# EAGLE library part U-BLOX_SARA-N2 (library UBLOX_SARA-N2)
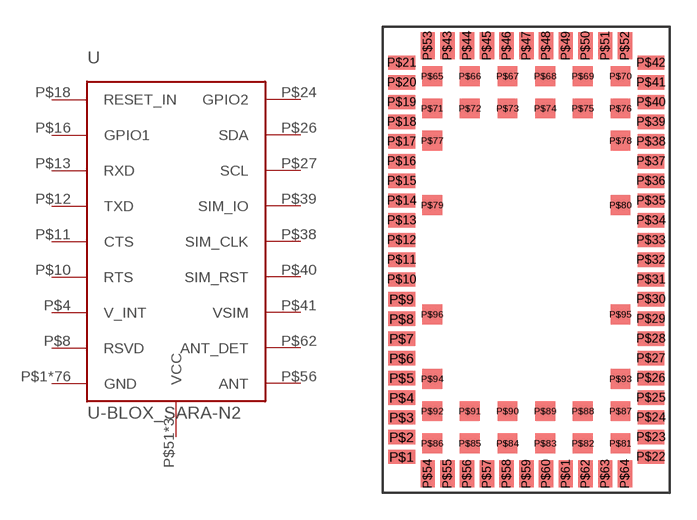
[diagram p0: symbol with the pads of SARA-N2; footprint SARA-N2]

Designator prefix -

## U-BLOX_SARA-N2  [SARA-N2]
P$1  GND  pwr
P$2  GND  pwr
P$3  GND  pwr
P$4  V_INT
P$5  GND  pwr
P$6  GND  pwr
P$7  GND  pwr
P$8  RSVD  nc
P$9  GND  pwr
P$10  RTS  in
P$11  CTS  out
P$12  TXD  in
P$13  RXD  out
P$14  GND  pwr
P$15  GND  pwr
P$16  GPIO1
P$17  GND  pwr
P$18  RESET_IN  in
P$19  GND  pwr
P$20  GND  pwr
P$21  GND  pwr
P$22  GND  pwr
P$23  GND  pwr
P$24  GPIO2
P$25  GND  pwr
P$26  SDA
P$27  SCL  out
P$28  GND  pwr
P$29  GND  pwr
P$30  GND  pwr
P$31  GND  pwr
P$32  GND  pwr
P$33  GND  pwr
P$34  GND  pwr
P$35  GND  pwr
P$36  GND  pwr
P$37  GND  pwr
P$38  SIM_CLK  out
P$39  SIM_IO
P$40  SIM_RST  out
P$41  VSIM  out
P$42  GND  pwr
P$43  GND  pwr
P$44  GND  pwr
P$45  GND  pwr
P$46  GND  pwr
P$47  GND  pwr
P$48  GND  pwr
P$49  GND  pwr
P$50  GND  pwr
P$51  VCC  pwr
P$52  VCC  pwr
P$53  VCC  pwr
P$54  GND  pwr
P$55  GND  pwr
P$56  ANT
P$57  GND  pwr
P$58  GND  pwr
P$59  GND  pwr
P$60  GND  pwr
P$61  GND  pwr
P$62  ANT_DET  in
P$63  GND  pwr
P$64  GND  pwr
P$65  GND  pwr
P$66  GND  pwr
P$67  GND  pwr
P$68  GND  pwr
P$69  GND  pwr
P$70  GND  pwr
P$71  GND  pwr
P$72  GND  pwr
P$73  GND  pwr
P$74  GND  pwr
P$75  GND  pwr
P$76  GND  pwr
P$77  GND  pwr
P$78  GND  pwr
P$79  GND  pwr
P$80  GND  pwr
P$81  GND  pwr
P$82  GND  pwr
P$83  GND  pwr
P$84  GND  pwr
P$85  GND  pwr
P$86  GND  pwr
P$87  GND  pwr
P$88  GND  pwr
P$89  GND  pwr
P$90  GND  pwr
P$91  GND  pwr
P$92  GND  pwr
P$93  GND  pwr
P$94  GND  pwr
P$95  GND  pwr
P$96  GND  pwr

## Footprint SARA-N2 (pad centres in mm)
smd 1.5 x 0.8: P$1 1.05,2; P$2 1.05,3.1; P$3 1.05,4.2; P$4 1.05,5.3; P$5 1.05,6.4; P$6 1.05,7.5; P$7 1.05,8.6; P$8 1.05,9.7; P$9 1.05,10.8; P$10 1.05,11.9; P$11 1.05,13; P$12 1.05,14.1; P$13 1.05,15.2; P$14 1.05,16.3; P$15 1.05,17.4; P$16 1.05,18.5; P$17 1.05,19.6; P$18 1.05,20.7; P$19 1.05,21.8; P$20 1.05,22.9; P$21 1.05,24; P$22 14.95,2; P$23 14.95,3.1; P$24 14.95,4.2; P$25 14.95,5.3; P$26 14.95,6.4; P$27 14.95,7.5; P$28 14.95,8.6; P$29 14.95,9.7; P$30 14.95,10.8; P$31 14.95,11.9; P$32 14.95,13; P$33 14.95,14.1; P$34 14.95,15.2; P$35 14.95,16.3; P$36 14.95,17.4; P$37 14.95,18.5; P$38 14.95,19.6; P$39 14.95,20.7; P$40 14.95,21.8; P$41 14.95,22.9; P$42 14.95,24
smd 0.8 x 1.5: P$43 3.6,24.95; P$44 4.7,24.95; P$45 5.8,24.95; P$46 6.9,24.95; P$47 8,24.95; P$48 9.1,24.95; P$49 10.2,24.95; P$50 11.3,24.95; P$51 12.4,24.95; P$52 13.5,24.95; P$53 2.5,24.95; P$54 2.5,1.05; P$55 3.6,1.05; P$56 4.7,1.05; P$57 5.8,1.05; P$58 6.9,1.05; P$59 8,1.05; P$60 9.1,1.05; P$61 10.2,1.05; P$62 11.3,1.05; P$63 12.4,1.05; P$64 13.5,1.05
smd 1.1 x 1.1: P$65 2.75,23.25; P$66 4.85,23.25; P$67 6.95,23.25; P$68 9.05,23.25; P$69 11.15,23.25; P$70 13.25,23.25; P$71 2.75,21.45; P$72 4.85,21.45; P$73 6.95,21.45; P$74 9.05,21.45; P$75 11.15,21.45; P$76 13.25,21.45; P$77 2.75,19.65; P$78 13.25,19.65; P$79 2.75,16.05; P$80 13.25,16.05; P$81 13.25,2.75; P$82 11.15,2.75; P$83 9.05,2.75; P$84 6.95,2.75; P$85 4.85,2.75; P$86 2.75,2.75; P$87 13.25,4.55; P$88 11.15,4.55; P$89 9.05,4.55; P$90 6.95,4.55; P$91 4.85,4.55; P$92 2.75,4.55; P$93 13.25,6.35; P$94 2.75,6.35; P$95 13.25,9.95; P$96 2.75,9.95